# Altium footprint library BateryHolder.PcbLib: 3 footprints
Each footprint in its own frame and in the unit in brackets; x right, y up, seen from the top. Pads: shape width x height; smd on the part's side, far side on the other; paste and mask are expansions set on the pad; w line width, h text height; cw(c..) or ccw(c..) is an arc to the next point about the centre after c.
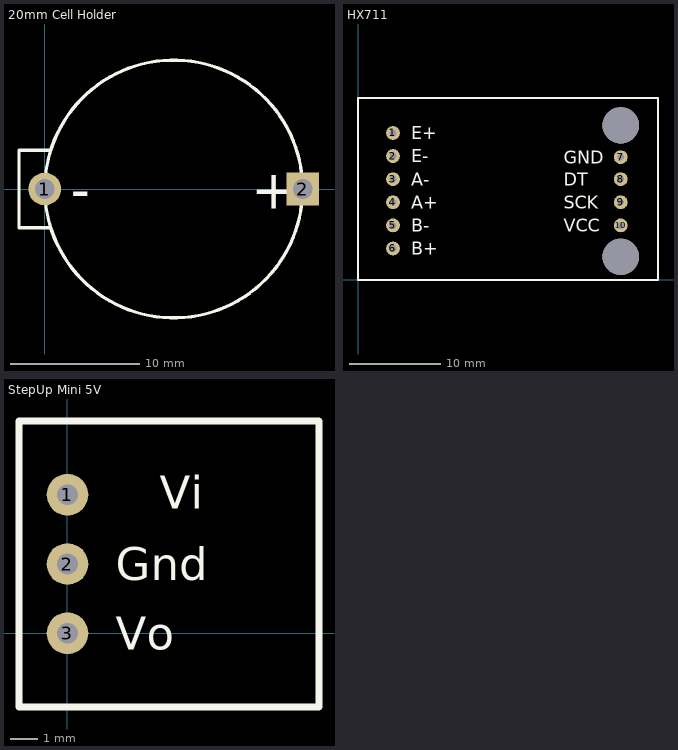
[diagram p0: the footprints below, top view; thin cyan lines are the x and y axes]

## 20mm Cell Holder [mil] "CR2032 Batery Holder - 23-BHCC-1"
pads (2):
  round 100 hole 60: 1(0,0)
  rect 100x100 hole 60: 2(787.4,0)
Top Overlay:
  circle w10: c393.7,0 r393.7
  lines w10: 15.75,-118.11 -78.74,-118.11 -78.74,118.11 15.75,118.11
  text "-" at 78.74,-59.98 h120
  text "+" at 629.92,-59.98 h120
3D body "KLS5-CR2032-01 battery holder.stp": height 342.52, standoff -149.61, extent -90.66,-434.04 866.04,436.04

## HX711 [mil] "LoadCell Module"
pads (12):
  round 60 hole 30: 1(151.57,636.22) 2(151.57,536.22) 3(151.57,436.22) 4(151.57,336.22) 5(151.57,236.22) 6(151.57,136.22) 7(1137.8,531.5) 8(1137.8,436.22) 9(1137.8,336.22) 10(1137.8,236.22)
  round 157.48 hole 157.48: ""(1137.8,100) ""(1137.8,669.29)
Top Overlay:
  lines w10: 0,0 0,787.4 1299.21,787.4 1299.21,0 0,0
  text "B+" at 230,108.67 h55.12
  text "B-" at 230,208 h55.12
  text "A+" at 230,308.67 h55.12
  text "A-" at 230,408.67 h55.12
  text "E-" at 230,508.67 h55.12
  text "E+" at 230,608.67 h55.12
  text "VCC" at 890,208.67 h55.12
  text "SCK" at 890,308.67 h55.12
  text "DT" at 890,408.67 h55.12
  text "GND" at 890,503.95 h55.12
3D body "HX711 (1).STEP": height 77.92, standoff 0.5, extent -20.07,-13.06 1318.51,813.71

## StepUp Mini 5V [mil] "StepUp mini 5V"
pads (3):
  round 60 hole 30: 1(0,200) 2(0,100) 3(0,0)
Top Overlay:
  lines w10: -70,-106.69 -70,100 -70,306.69 363.07,306.69 363.07,-106.69 -70,-106.69
  text "Vi" at 133,180 h47.24
  text "Gnd" at 70,76.39 h47.24
  text "Vo" at 70,-23.61 h47.24
3D body "DD0503MA Ultra Mini DC 3.7v 4.5v 5v to 3.3v DC DC Step Down Converter Buck Module.STEP": height 440.94, standoff -220.47, extent -15.6,-48 275.74,252